# Altium footprint library B2405S-2WR3L.PcbLib: 1 footprints
Each footprint in its own frame and in the unit in brackets; x right, y up, seen from the top. Pads: shape width x height; smd on the part's side, far side on the other; paste and mask are expansions set on the pad; w line width, h text height; cw(c..) or ccw(c..) is an arc to the next point about the centre after c.
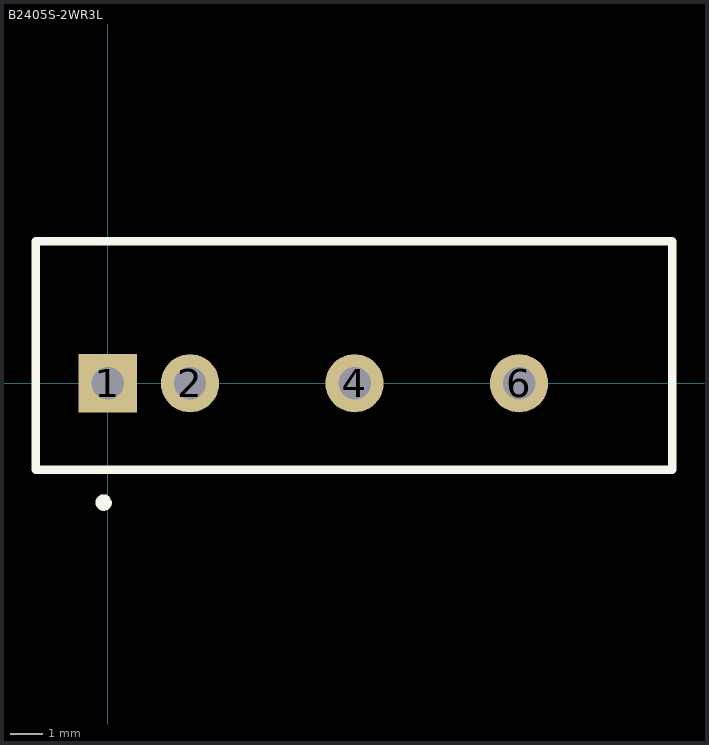
[diagram p0: the footprint, top view; thin cyan lines are the x and y axes]

## B2405S-2WR3L [mm]
pads (4):
  rect 1.8x1.8 hole 1: 1(0,0)
  round 1.8 hole 1: 2(2.54,0) 4(7.62,0) 6(12.7,0)
Top Overlay:
  lines w0.254: -0.037,-3.593 ccw(c-0.127,-3.683) 0,-3.683 ; -2.222,-2.667 17.427,-2.667 17.427,4.383 -2.222,4.383 -2.222,-2.667